# EAGLE library part TC2030-IDC (library TC2030-IDC)
CABLE ADAPTER 6 POS Source: Datasheet <https://datasheet.datasheetarchive.com/originals/distributors/Datasheets_SAMA/62bc384e093448baaaa63dbd0b9d8707.pdf>
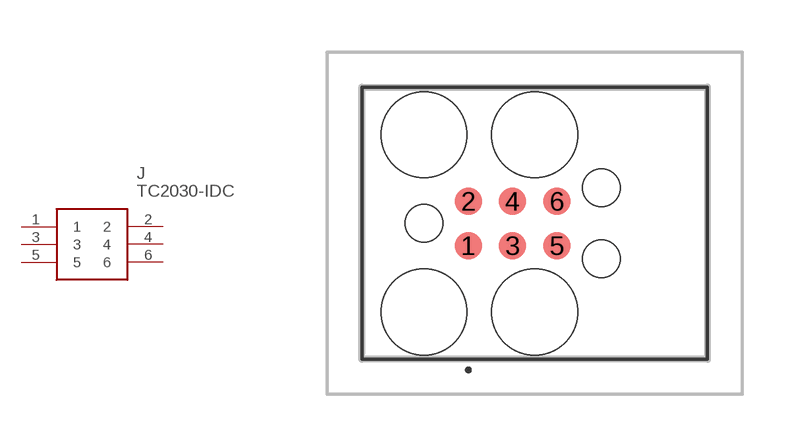
[diagram p0: symbol with the pads of TC2030IDC; footprint TC2030IDC]

Designator prefix J

## TC2030-IDC (Description: CABLE ADAPTER 6 POS; Height: 19mm; Manufacturer_Name: Tag Connect; Manufacturer_Part_Number: TC2030-IDC)  [TC2030IDC]
1  1
2  2
3  3
4  4
5  5
6  6

## Footprint TC2030IDC (pad centres in mm)
TC2030-IDC
smd 0.783 x 0.783: 1 -0.953,-0.635; 2 -0.953,0.635; 3 0.317,-0.635; 4 0.317,0.635; 5 1.588,-0.635; 6 1.588,0.635
hole 2.451 at -2.223,-2.54
hole 1.067 at -2.223,0
hole 2.451 at -2.223,2.54
hole 2.451 at 0.952,-2.54
hole 2.451 at 0.952,2.54
hole 1.067 at 2.857,-1.016
hole 1.067 at 2.857,1.016